# Altium integrated library MAKKI_ISMAIL_ESPS3_CAM.IntLib: 21 symbols
Pins are listed as number, name and electrical type; pins without a type are passive.

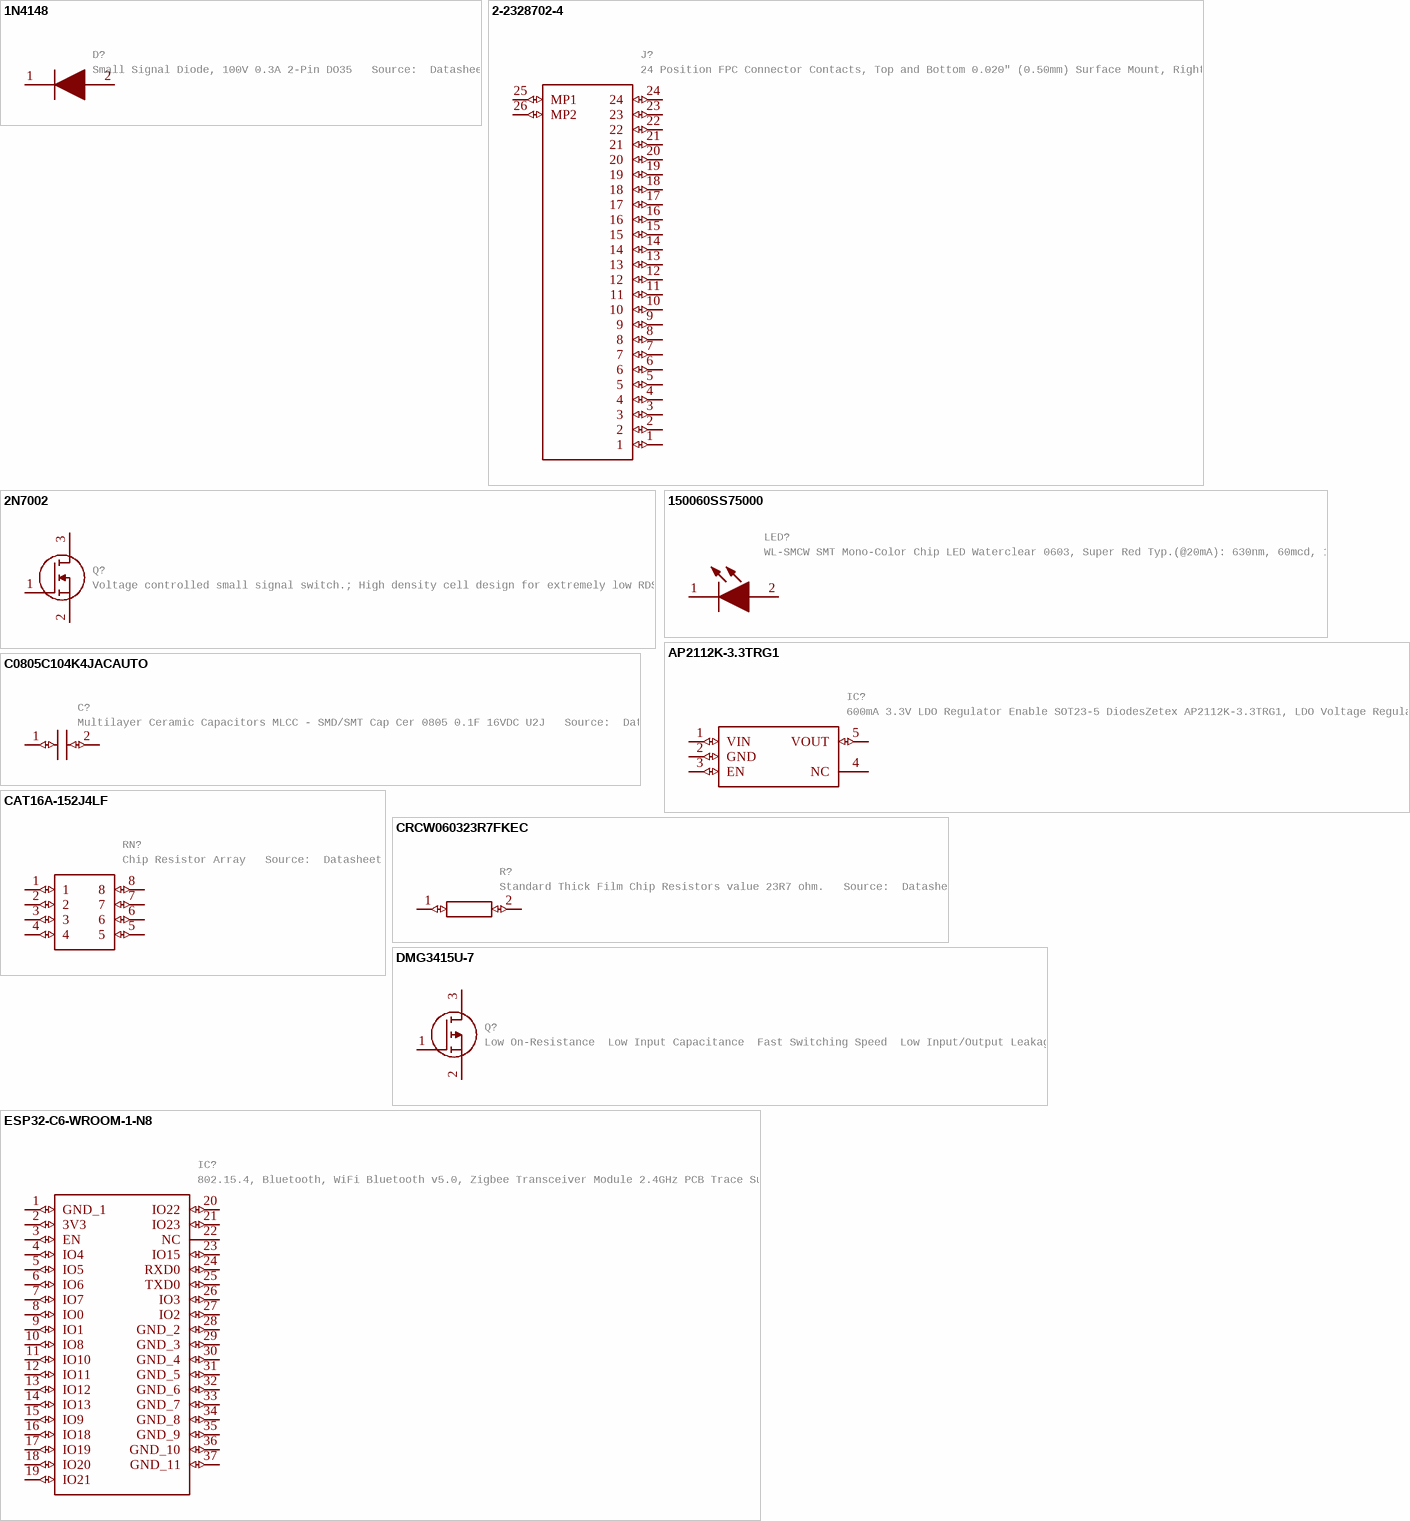
[diagram p0: symbols 1N4148 to ESP32-C6-WROOM-1-N8]

## 1N4148
designator D?, comment Small Signal Diode, 100V 0.3A 2-Pin DO35   Source:  Datasheet
Manufacturer_Name: onsemi; GateName_1: G$1; SymbolName_1: 1N4148; LibraryName: SamacSys_Parts; DeviceSetName: 1N4148; Package: DIOAD1068W53L380D172; Mouser_Part_Number: 512-1N4148; Mouser_Price-Stock: https://www.mouser.co.uk/ProductDetail/onsemi-Fairchild/1N4148?qs=i4Fj9T%2FoRm8RMUhj5DeFQg%3D%3D; Manufacturer_Part_Number: 1N4148; Description: Small Signal Diode, 100V 0.3A 2-Pin DO35; Height: mm
footprint DIOAD1068W53L380D172
pins: 1 K (io), 2 A (io)

## 2-2328702-4
designator J?, comment 24 Position FPC Connector Contacts, Top and Bottom 0.020" (0.50mm) Surface Mount, Right Angle   Source:  Datasheet
Manufacturer_Name: TE Connectivity; GateName_1: G$1; SymbolName_1: 2-2328702-4; LibraryName: SamacSys_Parts; DeviceSetName: 2-2328702-4; Package: 223287024; Mouser_Part_Number: 571-2-2328702-4; Mouser_Price-Stock: https://www.mouser.co.uk/ProductDetail/TE-Connectivity/2-2328702-4?qs=P1JMDcb91o4XHtVyXYd2Ug%3D%3D; Manufacturer_Part_Number: 2-2328702-4; Description: 24 Position FPC Connector Contacts, Top and Bottom 0.020" (0.50mm) Surface Mount, Right Angle; Height: 1.21mm
footprint 223287024
pins: 1 (io), 2 (io), 3 (io), 4 (io), 5 (io), 6 (io), 7 (io), 8 (io), 9 (io), 10 (io), 11 (io), 12 (io), 13 (io), 14 (io), 15 (io), 16 (io), 17 (io), 18 (io), 19 (io), 20 (io), 21 (io), 22 (io), 23 (io), 24 (io), 25 MP1 (io), 26 MP2 (io)

## 2N7002
designator Q?, comment Voltage controlled small signal switch.; High density cell design for extremely low RDS(ON).; Rugged and Reliable.; High saturation current capability.   Source:  Datasheet
Manufacturer_Name: onsemi; GateName_1: G$1; SymbolName_1: 2N7002; LibraryName: SamacSys_Parts; DeviceSetName: 2N7002; Package: SOT96P240X120-3N; Mouser_Part_Number: 512-2N7002; Mouser_Price-Stock: https://www.mouser.co.uk/ProductDetail/onsemi-Fairchild/2N7002?qs=0dwsXDNhqlz66WJJhrTFjQ%3D%3D; Manufacturer_Part_Number: 2N7002; Description: Voltage controlled small signal switch.; High density cell design for extremely low RDS(ON).; Rugged and Reliable.; High saturation current capability.; Height: 1.2mm
footprint SOT96P240X120-3N
pins: 1 G (io), 2 S (io), 3 D (io)

## 150060SS75000
designator LED?, comment WL-SMCW SMT Mono-Color Chip LED Waterclear 0603, Super Red Typ.(@20mA): 630nm, 60mcd, 1.9V, 140 AlInGaP   Source:  Datasheet
Manufacturer_Name: Wurth Elektronik; GateName_1: G$1; SymbolName_1: 150060SS75000; LibraryName: SamacSys_Parts; DeviceSetName: 150060SS75000; Package: LEDC1608X80N; Mouser_Part_Number: 710-150060SS75000; Mouser_Price-Stock: https://www.mouser.co.uk/ProductDetail/Wurth-Elektronik/150060SS75000?qs=LlUlMxKIyB0oQaxwspeTEA%3D%3D; Manufacturer_Part_Number: 150060SS75000; Description: WL-SMCW SMT Mono-Color Chip LED Waterclear 0603, Super Red Typ.(@20mA): 630nm, 60mcd, 1.9V, 140 AlInGaP; Height: 0.8mm
footprint LEDC1608X80N
pins: 1 K (io), 2 A (io)

## AP2112K-3.3TRG1
designator IC?, comment 600mA 3.3V LDO Regulator Enable SOT23-5 DiodesZetex AP2112K-3.3TRG1, LDO Voltage Regulator, 3.3 V +/-1.5%, 2.5  6 Vin, 5-Pin SOT-23   Source:  Datasheet
Manufacturer_Name: Diodes Incorporated; GateName_1: G$1; SymbolName_1: AP2112K-3.3TRG1; LibraryName: SamacSys_Parts; DeviceSetName: AP2112K-3.3TRG1; Package: SOT95P285X140-5N; Mouser_Part_Number: 621-AP2112K-3.3TRG1; Mouser_Price-Stock: https://www.mouser.co.uk/ProductDetail/Diodes-Incorporated/AP2112K-3.3TRG1?qs=x6A8l6qLYDDPYHosCdzh%2FA%3D%3D; Manufacturer_Part_Number: AP2112K-3.3TRG1; Description: 600mA 3.3V LDO Regulator Enable SOT23-5 DiodesZetex AP2112K-3.3TRG1, LDO Voltage Regulator, 3.3 V +/-1.5%, 2.5  6 Vin, 5-Pin SOT-23; Height: 1.4mm
footprint SOT95P285X140-5N
pins: 1 VIN (io), 2 GND (io), 3 EN (io), 4 NC, 5 VOUT (io)

## C0805C104K4JACAUTO
designator C?, comment Multilayer Ceramic Capacitors MLCC - SMD/SMT Cap Cer 0805 0.1F 16VDC U2J   Source:  Datasheet
Manufacturer_Name: KEMET; GateName_1: G$1; SymbolName_1: C0805C104K4JACAUTO; LibraryName: SamacSys_Parts; DeviceSetName: C0805C104K4JACAUTO; Package: CAPC2012X140N; Mouser_Part_Number: 80-C0805C104K4JAUTO; Mouser_Price-Stock: https://www.mouser.co.uk/ProductDetail/KEMET/C0805C104K4JACAUTO?qs=t7xnP681wgUZDwdF060xTA%3D%3D; Manufacturer_Part_Number: C0805C104K4JACAUTO; Description: Multilayer Ceramic Capacitors MLCC - SMD/SMT Cap Cer 0805 0.1F 16VDC U2J; Height: 1.4mm
footprint CAPC2012X140N
pins: 1 (io), 2 (io)

## CAT16A-152J4LF
designator RN?, comment Chip Resistor Array   Source:  Datasheet
Manufacturer_Name: Bourns; GateName_1: G$1; SymbolName_1: CAT16A-152J4LF; LibraryName: SamacSys_Parts; DeviceSetName: CAT16A-152J4LF; Package: CAT16_J4; Mouser_Part_Number: 652-CAT16A-152J4LF; Mouser_Price-Stock: https://www.mouser.co.uk/ProductDetail/Bourns/CAT16A-152J4LF?qs=DRkmTr78QASFXuR8pgLfEQ%3D%3D; Manufacturer_Part_Number: CAT16A-152J4LF; Description: Chip Resistor Array; Height: 0.6mm
footprint CAT16_J4
pins: 1 (io), 2 (io), 3 (io), 4 (io), 5 (io), 6 (io), 7 (io), 8 (io)

## CRCW060323R7FKEC
designator R?, comment Standard Thick Film Chip Resistors value 23R7 ohm.   Source:  Datasheet
Manufacturer_Name: Vishay; GateName_1: G$1; SymbolName_1: CRCW060323R7FKEC; LibraryName: SamacSys_Parts; DeviceSetName: CRCW060323R7FKEC; Package: RESC1608X50N; Manufacturer_Part_Number: CRCW060323R7FKEC; Description: Standard Thick Film Chip Resistors value 23R7 ohm.; Height: 0.5mm
footprint RESC1608X50N
pins: 1 (io), 2 (io)

## DMG3415U-7
designator Q?, comment Low On-Resistance  Low Input Capacitance  Fast Switching Speed  Low Input/Output Leakage  ESD Protected Up To 3kV  Totally Lead-Free & Fully RoHS Compliant (Notes 1 & 2)  Halogen and Antimony Free. Green Device (Note 3)  Qualified to AEC-Q101 Standards for High Reliability  PPAP Capable (Note 4)   Source:  Datasheet
Manufacturer_Name: Diodes Incorporated; GateName_1: G$1; SymbolName_1: DMG3415U-7; LibraryName: SamacSys_Parts; DeviceSetName: DMG3415U-7; Package: SOT96P240X110-3N; Mouser_Part_Number: 621-DMG3415U-7; Mouser_Price-Stock: https://www.mouser.co.uk/ProductDetail/Diodes-Incorporated/DMG3415U-7?qs=oUsD4qhOtFwqFLkI6WCRAA%3D%3D; Manufacturer_Part_Number: DMG3415U-7; Description: Low On-Resistance  Low Input Capacitance  Fast Switching Speed  Low Input/Output Leakage  ESD Protected Up To 3kV  Totally Lead-Free & Fully RoHS Compliant (Notes 1 & 2)  Halogen and Antimony Free. Green Device (Note 3)  Qualified to AEC-Q101 Standards for High Reliability  PPAP Capable (Note 4); Height: 1.1mm
footprint SOT96P240X110-3N
pins: 1 G (io), 2 S (io), 3 D (io)

## ESP32-C6-WROOM-1-N8
designator IC?, comment 802.15.4, Bluetooth, WiFi Bluetooth v5.0, Zigbee Transceiver Module 2.4GHz PCB Trace Surface Mount   Source:  Datasheet
Manufacturer_Name: Espressif Systems; GateName_1: G$1; SymbolName_1: ESP32-C6-WROOM-1-N8; LibraryName: SamacSys_Parts; DeviceSetName: ESP32-C6-WROOM-1-N8; Package: ESP32C6WROOM1N8; Mouser_Part_Number: 356-ESP32C6WROOM1N8; Mouser_Price-Stock: https://www.mouser.co.uk/ProductDetail/Espressif-Systems/ESP32-C6-WROOM-1-N8?qs=8Wlm6%252BaMh8ST02Gmwp74cw%3D%3D; Manufacturer_Part_Number: ESP32-C6-WROOM-1-N8; Description: 802.15.4, Bluetooth, WiFi Bluetooth v5.0, Zigbee Transceiver Module 2.4GHz PCB Trace Surface Mount; Height: 3.25mm
footprint ESP32C6WROOM1N8
pins: 1 GND_1 (io), 2 3V3 (io), 3 EN (io), 4 IO4 (io), 5 IO5 (io), 6 IO6 (io), 7 IO7 (io), 8 IO0 (io), 9 IO1 (io), 10 IO8 (io), 11 IO10 (io), 12 IO11 (io), 13 IO12 (io), 14 IO13 (io), 15 IO9 (io), 16 IO18 (io), 17 IO19 (io), 18 IO20 (io), 19 IO21 (io), 20 IO22 (io), 21 IO23 (io), 22 NC, 23 IO15 (io), 24 RXD0 (io), 25 TXD0 (io), 26 IO3 (io), 27 IO2 (io), 28 GND_2 (io), 29 GND_3 (io), 30 GND_4 (io), 31 GND_5 (io), 32 GND_6 (io), 33 GND_7 (io), 34 GND_8 (io), 35 GND_9 (io), 36 GND_10 (io), 37 GND_11 (io)

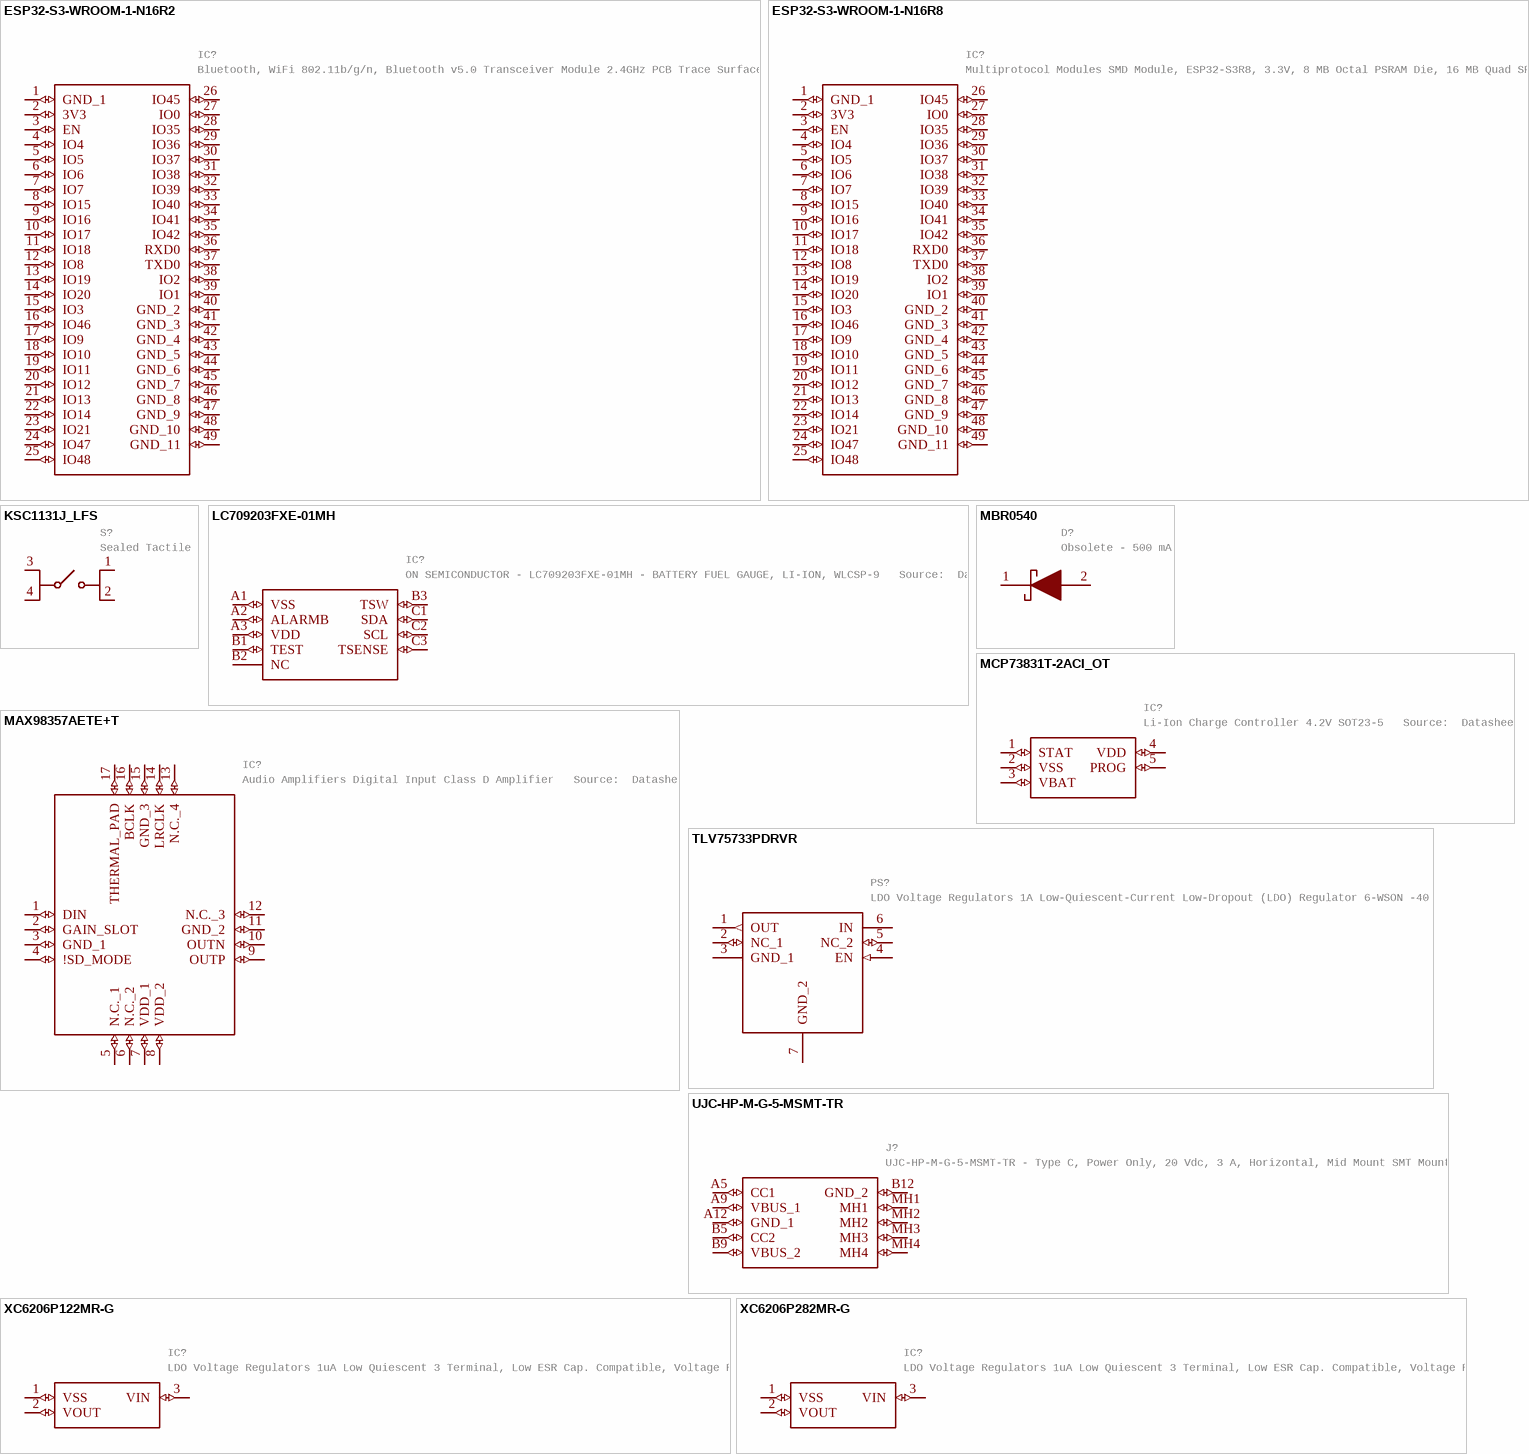
[diagram p1: symbols ESP32-S3-WROOM-1-N16R2 to XC6206P282MR-G]

## ESP32-S3-WROOM-1-N16R2
designator IC?, comment Bluetooth, WiFi 802.11b/g/n, Bluetooth v5.0 Transceiver Module 2.4GHz PCB Trace Surface Mount , 3V ~ 3.6V , 95mA ~ 97mA , -40C ~ 85C (TA)   Source:  Datasheet
Manufacturer_Name: Espressif Systems; GateName_1: G$1; SymbolName_1: ESP32-S3-WROOM-1-N16R2; LibraryName: SamacSys_Parts; DeviceSetName: ESP32-S3-WROOM-1-N16R2; Package: ESP32S3WROOM1N16R2; Manufacturer_Part_Number: ESP32-S3-WROOM-1-N16R2; Mouser_Part_Number: 356-ESP32S3WRM1N16R2; Mouser_Price-Stock: https://www.mouser.co.uk/ProductDetail/Espressif-Systems/ESP32-S3-WROOM-1-N16R2?qs=Li%252BoUPsLEnvy1bxV65eH%2Fw%3D%3D; Description: Bluetooth, WiFi 802.11b/g/n, Bluetooth v5.0 Transceiver Module 2.4GHz PCB Trace Surface Mount , 3V ~ 3.6V , 95mA ~ 97mA , -40C ~ 85C (TA); Height: 3.25mm
footprint ESP32S3WROOM1N16R2
pins: 1 GND_1 (io), 2 3V3 (io), 3 EN (io), 4 IO4 (io), 5 IO5 (io), 6 IO6 (io), 7 IO7 (io), 8 IO15 (io), 9 IO16 (io), 10 IO17 (io), 11 IO18 (io), 12 IO8 (io), 13 IO19 (io), 14 IO20 (io), 15 IO3 (io), 16 IO46 (io), 17 IO9 (io), 18 IO10 (io), 19 IO11 (io), 20 IO12 (io), 21 IO13 (io), 22 IO14 (io), 23 IO21 (io), 24 IO47 (io), 25 IO48 (io), 26 IO45 (io), 27 IO0 (io), 28 IO35 (io), 29 IO36 (io), 30 IO37 (io), 31 IO38 (io), 32 IO39 (io), 33 IO40 (io), 34 IO41 (io), 35 IO42 (io), 36 RXD0 (io), 37 TXD0 (io), 38 IO2 (io), 39 IO1 (io), 40 GND_2 (io), 41 GND_3 (io), 42 GND_4 (io), 43 GND_5 (io), 44 GND_6 (io), 45 GND_7 (io), 46 GND_8 (io), 47 GND_9 (io), 48 GND_10 (io), 49 GND_11 (io)

## ESP32-S3-WROOM-1-N16R8
designator IC?, comment Multiprotocol Modules SMD Module, ESP32-S3R8, 3.3V, 8 MB Octal PSRAM Die, 16 MB Quad SPI Flash, PCB Antenna   Source:  Datasheet
Manufacturer_Name: Espressif Systems; GateName_1: G$1; SymbolName_1: ESP32-S3-WROOM-1-N16R8; LibraryName: SamacSys_Parts; DeviceSetName: ESP32-S3-WROOM-1-N16R8; Package: ESP32S3WROOM1N16R8; Mouser_Part_Number: 356-ESP32S3WRM1N16R8; Mouser_Price-Stock: https://www.mouser.co.uk/ProductDetail/Espressif-Systems/ESP32-S3-WROOM-1-N16R8?qs=Li%252BoUPsLEnvQc9gW6AMhZg%3D%3D; Manufacturer_Part_Number: ESP32-S3-WROOM-1-N16R8; Description: Multiprotocol Modules SMD Module, ESP32-S3R8, 3.3V, 8 MB Octal PSRAM Die, 16 MB Quad SPI Flash, PCB Antenna; Height: 3.25mm
footprint ESP32S3WROOM1N16R8
pins: 1 GND_1 (io), 2 3V3 (io), 3 EN (io), 4 IO4 (io), 5 IO5 (io), 6 IO6 (io), 7 IO7 (io), 8 IO15 (io), 9 IO16 (io), 10 IO17 (io), 11 IO18 (io), 12 IO8 (io), 13 IO19 (io), 14 IO20 (io), 15 IO3 (io), 16 IO46 (io), 17 IO9 (io), 18 IO10 (io), 19 IO11 (io), 20 IO12 (io), 21 IO13 (io), 22 IO14 (io), 23 IO21 (io), 24 IO47 (io), 25 IO48 (io), 26 IO45 (io), 27 IO0 (io), 28 IO35 (io), 29 IO36 (io), 30 IO37 (io), 31 IO38 (io), 32 IO39 (io), 33 IO40 (io), 34 IO41 (io), 35 IO42 (io), 36 RXD0 (io), 37 TXD0 (io), 38 IO2 (io), 39 IO1 (io), 40 GND_2 (io), 41 GND_3 (io), 42 GND_4 (io), 43 GND_5 (io), 44 GND_6 (io), 45 GND_7 (io), 46 GND_8 (io), 47 GND_9 (io), 48 GND_10 (io), 49 GND_11 (io)

## KSC1131J_LFS
designator S?, comment Sealed Tactile Switch for SMT 6.2 x 6.2 mm, with 3.9 mm Height Hard Actuator   Source:  Datasheet
Manufacturer_Name: C & K COMPONENTS; Manufacturer_Part_Number: KSC1131J LFS; GateName_1: G$1; SymbolName_1: KSC1131J_LFS; LibraryName: SamacSys_Parts; DeviceSetName: KSC1131J_LFS; Package: KSC1131JLFS; Mouser_Part_Number: 611-KSC1131JLFS; Mouser_Price-Stock: https://www.mouser.co.uk/ProductDetail/CK/KSC1131J-LFS?qs=4ASt3YYao0VYfVs8teLygg%3D%3D; Description: Sealed Tactile Switch for SMT 6.2 x 6.2 mm, with 3.9 mm Height Hard Actuator; Height: 4.1mm
footprint KSC1131JLFS
pins: 1 NO_1 (io), 2 NO_2 (io), 3 COM_1 (io), 4 COM_2 (io)

## LC709203FXE-01MH
designator IC?, comment ON SEMICONDUCTOR - LC709203FXE-01MH - BATTERY FUEL GAUGE, LI-ION, WLCSP-9   Source:  Datasheet
Manufacturer_Name: onsemi; GateName_1: G$1; SymbolName_1: LC709203FXE-01MH; LibraryName: SamacSys_Parts; DeviceSetName: LC709203FXE-01MH; Package: BGA9C50P3X3_160X176X51; Mouser_Part_Number: 863-LC709203FXE-01MH; Mouser_Price-Stock: https://www.mouser.co.uk/ProductDetail/ON-Semiconductor/LC709203FXE-01MH?qs=abmNkq9no6DEwIOesxK%2F4Q%3D%3D; Manufacturer_Part_Number: LC709203FXE-01MH; Description: ON SEMICONDUCTOR - LC709203FXE-01MH - BATTERY FUEL GAUGE, LI-ION, WLCSP-9; Height: 0.51mm
footprint BGA9C50P3X3_160X176X51
pins: A1 VSS (io), A2 ALARMB (io), A3 VDD (io), B1 TEST (io), B2 NC, B3 TSW (io), C1 SDA (io), C2 SCL (io), C3 TSENSE (io)

## MAX98357AETE+T
designator IC?, comment Audio Amplifiers Digital Input Class D Amplifier   Source:  Datasheet
Manufacturer_Name: Analog Devices; GateName_1: G$1; SymbolName_1: MAX98357AETE+T; LibraryName: SamacSys_Parts; DeviceSetName: MAX98357AETE+T; Package: QFN50P300X300X80-17N; Mouser_Part_Number: 700-MAX98357AETE+T; Mouser_Price-Stock: https://www.mouser.co.uk/ProductDetail/Analog-Devices-Maxim-Integrated/MAX98357AETE%2bT?qs=AAveGqk956HhNpoJjF5x2g%3D%3D; Manufacturer_Part_Number: MAX98357AETE+T; Description: Audio Amplifiers Digital Input Class D Amplifier; Height: 0.8mm
footprint QFN50P300X300X80-17N
pins: 1 DIN (io), 2 GAIN_SLOT (io), 3 GND_1 (io), 4 !SD_MODE (io), 5 N.C._1 (io), 6 N.C._2 (io), 7 VDD_1 (io), 8 VDD_2 (io), 9 OUTP (io), 10 OUTN (io), 11 GND_2 (io), 12 N.C._3 (io), 13 N.C._4 (io), 14 LRCLK (io), 15 GND_3 (io), 16 BCLK (io), 17 THERMAL_PAD (io)

## MBR0540
designator D?, comment Obsolete - 500 mA, 40 V, Schottky Power Rectifier, Surface Mount   Source:  Datasheet
Manufacturer_Name: onsemi; GateName_1: G$1; SymbolName_1: MBR0540; LibraryName: SamacSys_Parts; DeviceSetName: MBR0540; Package: SOD3716X135N; Mouser_Part_Number: 512-MBR0540; Mouser_Price-Stock: https://www.mouser.co.uk/ProductDetail/onsemi-Fairchild/MBR0540?qs=k%252B6EXM6KU1M%2F4zaj7pzWOw%3D%3D; Manufacturer_Part_Number: MBR0540; Description: Obsolete - 500 mA, 40 V, Schottky Power Rectifier, Surface Mount; Height: 1.35mm
footprint SOD3716X135N
pins: 1 K (io), 2 A (io)

## MCP73831T-2ACI_OT
designator IC?, comment Li-Ion Charge Controller 4.2V SOT23-5   Source:  Datasheet
Manufacturer_Name: Microchip; Manufacturer_Part_Number: MCP73831T-2ACI/OT; GateName_1: G$1; SymbolName_1: MCP73831T-2ACI_OT; LibraryName: SamacSys_Parts; DeviceSetName: MCP73831T-2ACI_OT; Package: SOT95P270X145-5N; Mouser_Part_Number: 579-MCP73831T-2ACIOT; Mouser_Price-Stock: https://www.mouser.co.uk/ProductDetail/Microchip-Technology/MCP73831T-2ACI-OT?qs=yUQqVecv4qvbBQBGbHx0Mw%3D%3D; Description: Li-Ion Charge Controller 4.2V SOT23-5; Height: 1.45mm
footprint SOT95P270X145-5N
pins: 1 STAT (io), 2 VSS (io), 3 VBAT (io), 4 VDD (io), 5 PROG (io)

## TLV75733PDRVR
designator PS?, comment LDO Voltage Regulators 1A Low-Quiescent-Current Low-Dropout (LDO) Regulator 6-WSON -40 to 125   Source:  Datasheet
Manufacturer_Name: Texas Instruments; GateName_1: G$1; SymbolName_1: TLV75733PDRVR; LibraryName: SamacSys_Parts; DeviceSetName: TLV75733PDRVR; Package: SON65P200X200X80-7N; Manufacturer_Part_Number: TLV75733PDRVR; Mouser_Part_Number: 595-TLV75733PDRVR; Mouser_Price-Stock: https://www.mouser.co.uk/ProductDetail/Texas-Instruments/TLV75733PDRVR?qs=W0yvOO0ixfGlytsi33vetg%3D%3D; Arrow_Part_Number: TLV75733PDRVR; Arrow_Price-Stock: https://www.arrow.com/en/products/tlv75733pdrvr/texas-instruments?utm_currency=USD&region=europe; Description: LDO Voltage Regulators 1A Low-Quiescent-Current Low-Dropout (LDO) Regulator 6-WSON -40 to 125; Height: 0.8mm
footprint SON65P200X200X80-7N
pins: 1 OUT (out), 2 NC_1 (io), 3 GND_1 (power), 4 EN (in), 5 NC_2 (io), 6 IN (power), 7 GND_2 (power)

## UJC-HP-M-G-5-MSMT-TR
designator J?, comment UJC-HP-M-G-5-MSMT-TR - Type C, Power Only, 20 Vdc, 3 A, Horizontal, Mid Mount SMT Mounting Style, Surface Mount Contact Pin Type, Gold Flash, 6 Pins, USB Receptacle   Source:  Datasheet
Manufacturer_Name: Same Sky; GateName_1: G$1; SymbolName_1: UJC-HP-M-G-5-MSMT-TR; LibraryName: SamacSys_Parts; DeviceSetName: UJC-HP-M-G-5-MSMT-TR; Package: UJCHPMG5MSMTTR; Mouser_Part_Number: 179-UJCHPMG5MSMTTR; Mouser_Price-Stock: https://www.mouser.co.uk/ProductDetail/Same-Sky/UJC-HP-M-G-5-MSMT-TR?qs=vvQtp7zwQdNoSiAt%2Fa4qvA%3D%3D; Manufacturer_Part_Number: UJC-HP-M-G-5-MSMT-TR; Description: UJC-HP-M-G-5-MSMT-TR - Type C, Power Only, 20 Vdc, 3 A, Horizontal, Mid Mount SMT Mounting Style, Surface Mount Contact Pin Type, Gold Flash, 6 Pins, USB Receptacle; Height: 2.6mm
footprint UJCHPMG5MSMTTR
pins: A5 CC1 (io), A9 VBUS_1 (io), A12 GND_1 (io), B5 CC2 (io), B9 VBUS_2 (io), B12 GND_2 (io), MH1 (io), MH2 (io), MH3 (io), MH4 (io)

## XC6206P122MR-G
designator IC?, comment LDO Voltage Regulators 1uA Low Quiescent 3 Terminal, Low ESR Cap. Compatible, Voltage Regulator   Source:  Datasheet
Manufacturer_Name: Torex; GateName_1: G$1; SymbolName_1: XC6206P122MR-G; LibraryName: SamacSys_Parts; DeviceSetName: XC6206P122MR-G; Package: SOT95P280X130-3N; Mouser_Part_Number: 865-XC6206P122MR-G; Mouser_Price-Stock: https://www.mouser.co.uk/ProductDetail/Torex-Semiconductor/XC6206P122MR-G?qs=AsjdqWjXhJ%2F35%2FU%2FZk2JYg%3D%3D; Manufacturer_Part_Number: XC6206P122MR-G; Description: LDO Voltage Regulators 1uA Low Quiescent 3 Terminal, Low ESR Cap. Compatible, Voltage Regulator; Height: 1.3mm
footprint SOT95P280X130-3N
pins: 1 VSS (io), 2 VOUT (io), 3 VIN (io)

## XC6206P282MR-G
designator IC?, comment LDO Voltage Regulators 1uA Low Quiescent 3 Terminal, Low ESR Cap. Compatible, Voltage Regulator   Source:  Datasheet
Manufacturer_Name: Torex; GateName_1: G$1; SymbolName_1: XC6206P282MR-G; LibraryName: SamacSys_Parts; DeviceSetName: XC6206P282MR-G; Package: SOT95P280X130-3N; Mouser_Part_Number: 865-XC6206P282MR-G; Mouser_Price-Stock: https://www.mouser.co.uk/ProductDetail/Torex-Semiconductor/XC6206P282MR-G?qs=AsjdqWjXhJ%2Fpd3DOBopSeA%3D%3D; Manufacturer_Part_Number: XC6206P282MR-G; Description: LDO Voltage Regulators 1uA Low Quiescent 3 Terminal, Low ESR Cap. Compatible, Voltage Regulator; Height: 1.3mm
footprint SOT95P280X130-3N
pins: 1 VSS (io), 2 VOUT (io), 3 VIN (io)